# Altium footprint library MainBoard.PcbLib: 34 footprints (part 1 of 3)
Each footprint in its own frame and in the unit in brackets; x right, y up, seen from the top. Pads: shape width x height; smd on the part's side, far side on the other; paste and mask are expansions set on the pad; w line width, h text height; cw(c..) or ccw(c..) is an arc to the next point about the centre after c.
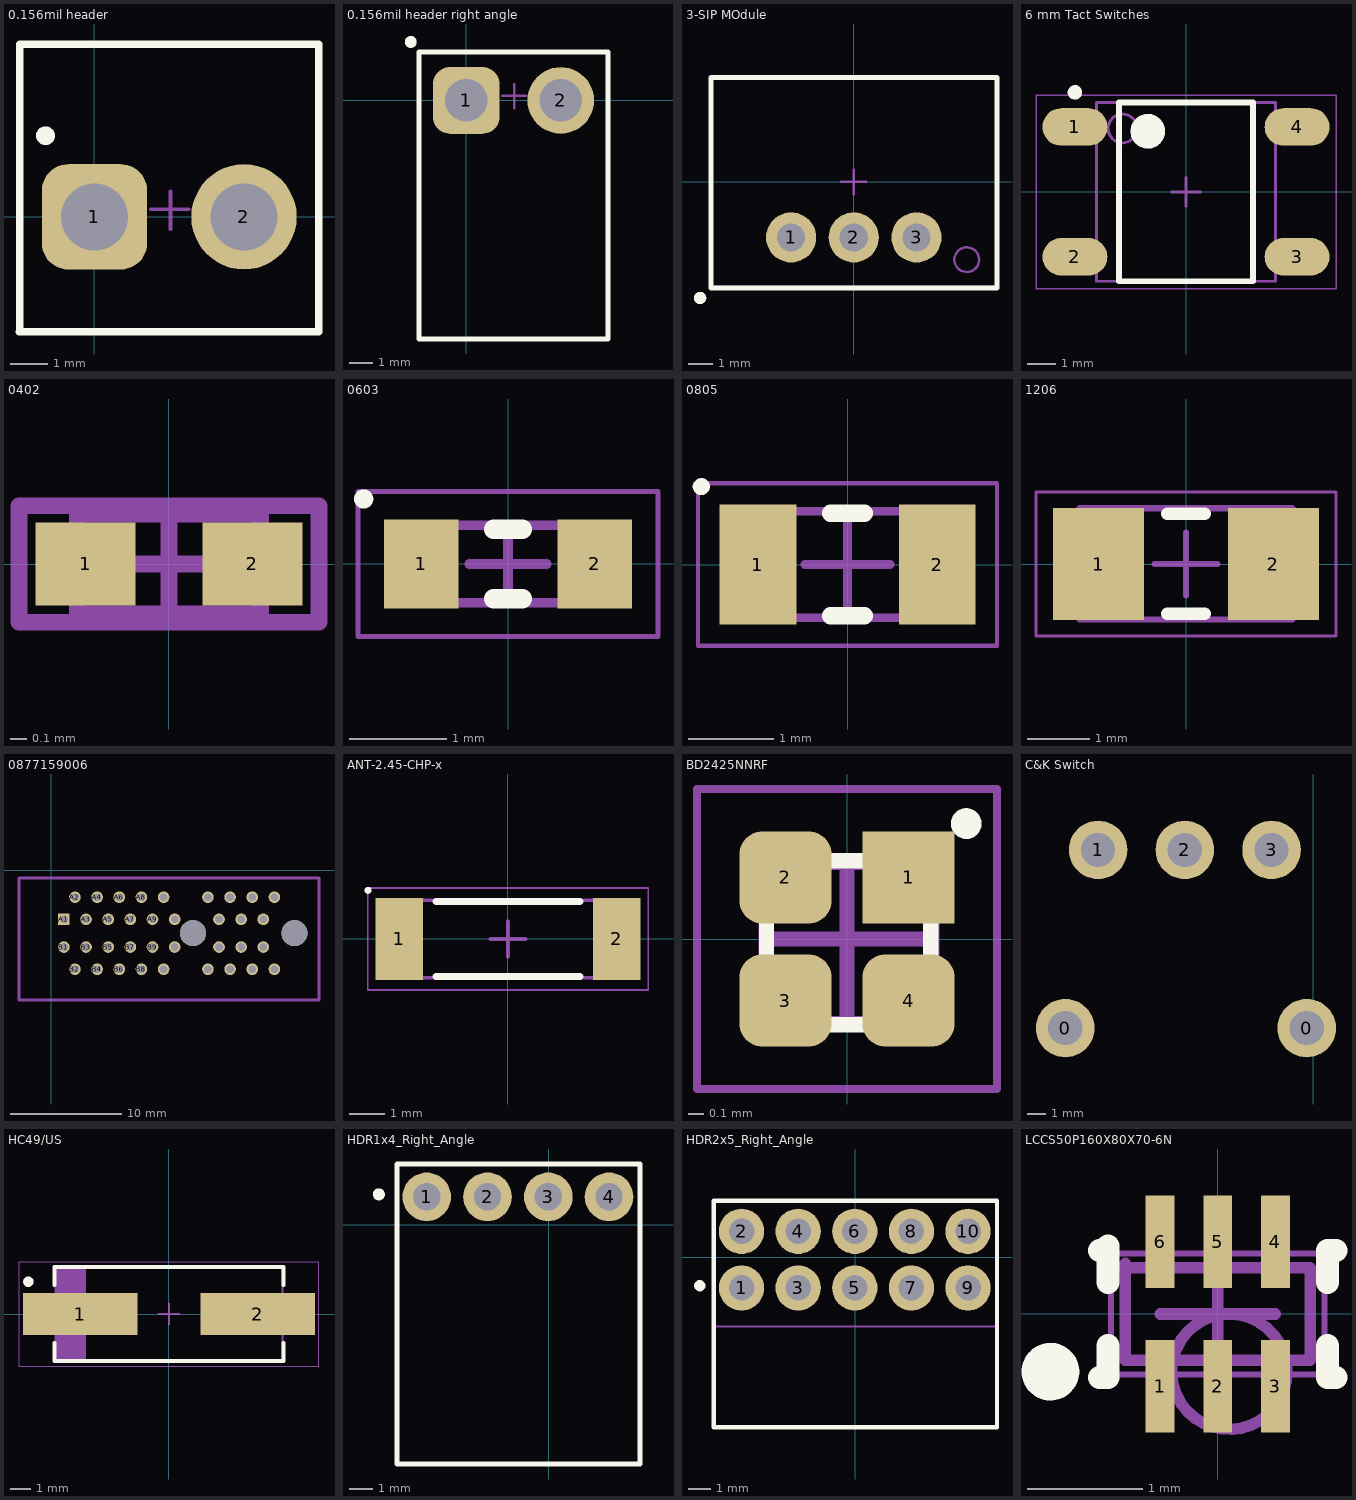
[diagram p0: the footprints below, top view; thin cyan lines are the x and y axes]

## 0.156mil header [mil]
height 409.45
pads (2):
  rrect50% 110x110 hole 70: 1(0,0)
  round 110 hole 70: 2(156,0)
Top Overlay:
  circle w9.84: c-51.18,84.65 r4.92
  lines w7.87: -78.49,-120.08 233.27,-120.08 ; -78,-120 -78,180 ; -77.76,180.12 234,180.12 234,-120
Mechanical 13:
  lines w3.94: -78.74,-120.08 -78.74,179.13 234.25,179.13 234.25,-120.08 -78.74,-120.08
Mechanical 15:
  lines w1.97: -78.74,-122.05 -78.74,179.13 233.27,179.13 233.27,-122.05 -78.74,-122.05
  lines w3.94: 59.06,7.87 98.43,7.87 ; 79.33,-12.8 79.33,26.57
3D body: height 425, standoff 20.08, extent -77.76,-120.08 234.25,181.1

## 0.156mil header right angle [mil]
height 409.45
pads (2):
  rrect50% 110x110 hole 70: 1(0,0)
  round 110 hole 70: 2(156,0)
Top Overlay:
  circle w9.84: c-91.54,96.46 r4.92
  lines w7.87: -78,-393.7 -78,79.72 234,79.72 234,-393.7 -78,-393.7
Mechanical 13:
  lines w3.94: -78.74,-393.7 -78.74,79.72 234.25,79.72 234.25,-393.7 -78.74,-393.7
Mechanical 15:
  lines w1.97: -78.74,-393.7 -78.74,79.72 233.27,79.72 233.27,-393.7 -78.74,-393.7
  lines w3.94: 59.06,7.87 98.43,7.87 ; 79.33,-12.8 79.33,26.57
3D body: height 425, standoff 20.08, extent -77.76,-393.7 234.25,79.72

## 3-SIP MOdule [mil] "SOIC, 4-Leads, Body 2,60x4,55mm, Pitch 1,27mm, IPC Medium Density"
height 409.45
pads (3):
  round 80 hole 45: 1(-100,-88.58) 2(0,-88.58) 3(100,-88.58)
Top Overlay:
  circle w9.84: c-245.08,-185.04 r4.92
  lines w7.87: -227.36,-169.29 -227.36,166.34 228.35,166.34 228.35,-169.29 -227.36,-169.29
Mechanical 13:
  circle w3.94: c180.12,-124.02 r19.68
  lines w3.94: -228.35,-167.32 228.35,-167.32 228.35,167.32 -228.35,167.32 -228.35,-167.32
Mechanical 15:
  lines w1.97: -229.33,-168.31 -229.33,165.35 228.35,165.35 228.35,-168.31 -229.33,-168.31
  lines w3.94: -19.68,0 19.68,0 ; 0,-19.68 0,19.69
3D body: height 409.45, standoff 20.08, extent -229.33,-170.28 228.34,166.34

## 6 mm Tact Switches [mm] "SOP, 4-Leads, Body 6,20x6,20mm, Pitch 4,50mm, IPC Medium Density"
height 3.5
pads (4):
  oval 2.25x1.3 smd: 1(-3.85,2.25) 2(-3.85,-2.25) 3(3.85,-2.25) 4(3.85,2.25)
Top Overlay:
  circle w0.6: c-1.325,2.1 r0.3
  circle w0.25: c-3.85,3.45 r0.125
  lines w0.2: -2.325,-3.1 2.325,-3.1 2.325,3.1 -2.325,3.1 -2.325,-3.1
Mechanical 13:
  circle w0.1: c-2.2,2.2 r0.5
  lines w0.1: -3.1,-3.1 3.1,-3.1 3.1,3.1 -3.1,3.1 -3.1,-3.1
Mechanical 15:
  lines w0.05: -5.2,-3.35 5.2,-3.35 5.2,3.35 -5.2,3.35 -5.2,-3.35
  lines w0.1: -0.5,0 0.5,0 ; 0,-0.5 0,0.5
3D body: height 3.5, standoff 0.15, extent -3.1,-3.1 3.1,3.1

## 0402 [mm] "Chip Capacitor, Body 1.0x0.5mm, IPC High Density"
height 1.3
pads (2):
  rect 0.6x0.5 smd: 1(-0.5,0) 2(0.5,0)
Mechanical 13:
  lines w0.1: -0.55,-0.3 -0.55,0.3 0.55,0.3 0.55,-0.3 -0.55,-0.3
Mechanical 15:
  lines w0.1: -0.3,0 0.3,0 ; 0,-0.3 0,0.3 ; -0.9,-0.35 -0.9,0.35 0.9,0.35 0.9,-0.35 -0.9,-0.35
3D body: height 1.3, standoff 0, extent -0.55,-0.3 0.55,0.3

## 0603 [mm] "Chip 2-Leads, Body 1,60x0,80mm, IPC Medium Density"
height 1
pads (2):
  rect 0.77x0.92 smd: 1(-0.895,0) 2(0.895,0)
Top Overlay:
  circle w0.1: c-1.492,0.672 r0.05
  lines w0.2: -0.15,-0.36 0.15,-0.36 ; -0.15,0.36 0.15,0.36
Mechanical 13:
  lines w0.1: -0.8,-0.4 -0.8,0.4 0.8,0.4 0.8,-0.4 -0.8,-0.4
Mechanical 15:
  lines w0.05: -1.55,-0.75 -1.55,0.75 1.55,0.75 1.55,-0.75 -1.55,-0.75
  lines w0.1: -0.4,0 0.4,0 ; 0,-0.4 0,0.4
3D body: height 1, standoff 0, extent -0.5,-0.4 0.5,0.4
3D body: height 1, standoff 0, extent -0.8,-0.4 -0.5,0.4
3D body: height 1, standoff 0, extent 0.5,-0.4 0.8,0.4

## 0805 [mm] "Chip Capacitor, 2-Leads, Body 2,00x1,25mm, IPC Medium Density"
height 0.8
pads (2):
  rect 0.9x1.4 smd: 1(-1.05,0) 2(1.05,0)
Top Overlay:
  circle w0.1: c-1.712,0.912 r0.05
  lines w0.2: -0.2,-0.6 0.2,-0.6 ; -0.2,0.6 0.2,0.6
Mechanical 13:
  lines w0.1: -1,-0.625 -1,0.625 1,0.625 1,-0.625 -1,-0.625
Mechanical 15:
  lines w0.05: -1.75,-0.95 -1.75,0.95 1.75,0.95 1.75,-0.95 -1.75,-0.95
  lines w0.1: -0.5,0 0.5,0 ; 0,-0.5 0,0.5
3D body: height 0.8, standoff 0, extent -0.6,-0.625 0.6,0.625
3D body: height 0.8, standoff 0, extent -1,-0.625 -0.6,0.625
3D body: height 0.8, standoff 0, extent 0.6,-0.625 1,0.625

## 1206 [mm] "Chip Resistor, 2-Leads, Body 3,20x1,58mm, IPC Medium Density"
height 0.85
pads (2):
  rect 1.45x1.8 smd: 1(-1.4,0) 2(1.4,0)
Top Overlay:
  lines w0.2: -0.3,-0.8 0.3,-0.8 ; -0.3,0.8 0.3,0.8
Mechanical 13:
  lines w0.1: -1.7,-0.89 -1.7,0.89 1.7,0.89 1.7,-0.89 -1.7,-0.89
Mechanical 15:
  lines w0.05: -2.4,-1.15 -2.4,1.15 2.4,1.15 2.4,-1.15 -2.4,-1.15
  lines w0.1: -0.5,0 0.5,0 ; 0,-0.5 0,0.5
3D body: height 0.85, standoff 0, extent -1.06,-0.89 1.06,0.89
3D body: height 0.85, standoff 0, extent -1.7,-0.89 -1.06,0.89
3D body: height 0.85, standoff 0, extent 1.06,-0.89 1.7,0.89

## 0877159006 [mm] "PCI Express Edge Card Connector"
pads (38):
  rect 1.05x1.05 hole 0.7: A1(1.15,-4.425)
  round 1.05 hole 0.7: A2(2.15,-2.425) A3(3.15,-4.425) A4(4.15,-2.425) A5(5.15,-4.425) A6(6.15,-2.425) A7(7.15,-4.425) A8(8.15,-2.425) A9(9.15,-4.425) A10(10.15,-2.425) A11(11.15,-4.425) A12(14.15,-2.425) A13(15.15,-4.425) A14(16.15,-2.425) A15(17.15,-4.425) A16(18.15,-2.425) A17(19.15,-4.425) A18(20.15,-2.425) B1(1.15,-6.925) B2(2.15,-8.925) B3(3.15,-6.925) B4(4.15,-8.925) B5(5.15,-6.925) B6(6.15,-8.925) B7(7.15,-6.925) B8(8.15,-8.925) B9(9.15,-6.925) B10(10.15,-8.925) B11(11.15,-6.925) B12(14.15,-8.925) B13(15.15,-6.925) B14(16.15,-8.925) B15(17.15,-6.925) B16(18.15,-8.925) B17(19.15,-6.925) B18(20.15,-8.925)
  round 2.35 hole 2.35: ""(12.8,-5.675) ""(21.95,-5.675)
Mechanical 15:
  lines w0.254: -2.9,-11.7 24.175,-11.7 24.175,-0.7 -2.9,-0.7 -2.9,-11.7
3D body: height 11.06, standoff -4.54, extent -1.825,-10.8 23.175,-1.95

## ANT-2.45-CHP-x [mm] "Chip Antenna 2-Leads, Body 6,50x2,20mm, IPC Medium Density"
height 1
pads (2):
  rect 1.35x2.35 smd: 1(-3.1,0) 2(3.1,0)
Top Overlay:
  circle w0.1: c-3.987,1.387 r0.05
  lines w0.2: -2.05,-1.075 2.05,-1.075 ; -2.05,1.075 2.05,1.075
Mechanical 13:
  lines w0.1: -3.25,-1.1 3.25,-1.1 3.25,1.1 -3.25,1.1 -3.25,-1.1
Mechanical 15:
  lines w0.05: -4,-1.45 4,-1.45 4,1.45 -4,1.45 -4,-1.45
  lines w0.1: -0.5,0 0.5,0 ; 0,-0.5 0,0.5
3D body: height 1, standoff 0, extent 2.45,-1.1 3.25,1.1
3D body: height 1, standoff 0, extent -3.25,-1.1 -2.45,1.1
3D body: height 1, standoff 0, extent -2.45,-1.1 2.45,1.1

## BD2425NNRF [mm]
pads (4):
  rect 0.6x0.6 smd: 1(0.4,0.4)
  rrect50% 0.6x0.6 smd: 2(-0.4,0.4) 3(-0.4,-0.4) 4(0.4,-0.4)
Top Overlay:
  circle w0.1: c0.775,0.75 r0.05
  lines w0.1: -0.523,-0.557 0.544,-0.557 0.544,0.51 -0.523,0.51 -0.523,-0.557
Mechanical 13:
  lines w0.1: -0.525,-0.55 -0.525,0.5 0.55,0.5 0.55,-0.55 -0.525,-0.55
Mechanical 15:
  lines w0.05: -0.975,-0.975 -0.975,0.975 0.975,0.975 0.975,-0.975 -0.975,-0.975
  lines w0.1: -0.5,0 0.5,0 ; 0,-0.5 0,0.5
3D body: height 1, standoff 0, extent -0.525,-0.55 0.55,0.5

## C&K Switch [mil]
pads (5):
  round 125 hole 73: 0(-528.62,501.46) 0(-13.62,501.46) 1(-458.62,881.46) 2(-273.62,881.46) 3(-88.62,881.46)
3D body: height 265, standoff -120, extent -537.61,267.06 -9.62,906.46

## HC49/US [mm] "2-Leads, Body 11,40x4,35mm, IPC Medium Density"
height 3.8
pads (2):
  rect 5.5x2 smd: 1(-4.25,0) 2(4.25,0)
Top Overlay:
  circle w0.25: c-6.75,1.55 r0.125
  lines w0.2: -5.5,-1.4 -5.5,-2.25 5.5,-2.25 5.5,-1.4 ; -5.5,1.4 -5.5,2.25 5.5,2.25 5.5,1.4
Mechanical 13:
  rectangle: -5.45,-2.2 -3.984,2.2
  lines w0.1: -5.45,-2.2 -5.45,2.2 5.45,2.2 5.45,-2.2 -5.45,-2.2
Mechanical 15:
  lines w0.05: -7.2,-2.5 -7.2,2.5 7.2,2.5 7.2,-2.5 -7.2,-2.5
  lines w0.1: -0.5,0 0.5,0 ; 0,-0.5 0,0.5
3D body: height 3.8, standoff 0, extent -5.45,-2.2 5.45,2.2

## HDR1x4_Right_Angle [mil] "1x4 header 100mil right angle"
height 393.7
pads (4):
  round 80 hole 45: 1(-201.18,46.06) 2(-101.18,46.06) 3(-1.18,46.06) 4(98.82,46.06)
Top Overlay:
  circle w9.84: c-280,50 r4.92
  lines w7.87: -250,-393.7 -250,100 150,100 150,-393.7 -250,-393.7
Mechanical 13:
  lines w3.94: -250,-122.05 -250,100
Mechanical 15:
  lines w3.94: -121.85,45.08 -82.48,45.08
3D body: height 314.96, standoff 20.08, extent -250,-390 150,100

## HDR2x5_Right_Angle [mil] "2x5 header 100mil right angle"
height 393.7
pads (10):
  round 80 hole 45: 1(-201.18,-53.94) 2(-201.18,46.06) 3(-101.18,-53.94) 4(-101.18,46.06) 5(-1.18,-53.94) 6(-1.18,46.06) 7(98.82,-53.94) 8(98.82,46.06) 9(198.82,-53.94) 10(198.82,46.06)
Top Overlay:
  circle w9.84: c-275,-50 r4.92
  lines w7.87: -250,-300 250,-300 250,100 -250,100 -250,-300
Mechanical 13:
  lines w3.94: -250,-122.05 -250,100 250,100 250,-122.05 -250,-122.05
Mechanical 15:
  lines w3.94: -121.85,45.08 -82.48,45.08
3D body: height 409.45, standoff 20.08, extent -250,-122.05 250,100

## LCCS50P160X80X70-6N [mm] "LCC, 6-Pins, Body 1,60x0,80mmx0,70mm, Pitch 0,50mm, IPC Medium Density"
height 0.7
pads (6):
  rect 0.25x0.8 smd: 1(-0.5,-0.627) 2(0,-0.627) 3(0.5,-0.627) 4(0.5,0.627) 5(0,0.627) 6(-0.5,0.627)
Top Overlay:
  circle w0.25: c-1.45,-0.5 r0.125
  lines w0.2: -1.025,-0.55 -0.95,-0.55 -0.95,-0.275 ; -1.025,0.55 -0.988,0.55 -0.95,0.587 -0.95,0.275 ; 0.95,-0.275 0.95,-0.55 1.025,-0.55 ; 0.95,0.275 0.95,0.55 1.025,0.55
Mechanical 13:
  circle w0.1: c0.1,-0.5 r0.5
  lines w0.1: -0.838,0.4 0.8,0.4 0.8,-0.4 -0.8,-0.4 -0.8,0.437 -0.838,0.4
Mechanical 15:
  lines w0.05: -0.925,-0.525 -0.925,0.525 0.925,0.525 0.925,-0.525 -0.925,-0.525
  lines w0.1: -0.5,0 0.5,0 ; 0,-0.5 0,0.5
3D body: height 0.7, standoff 0, extent -0.838,-0.4 0.8,0.437